# EAGLE library part BLUERADIO_BR-LE4.0-S2 (library SparkFun-RF)
Blue Radios BR-LE4.0-S2A BlueTooth 4.0 Module The BR-LE4.0-S2A is a standalone Class 1 Bluetooth 4.0 module that requires no firmware or external components. Custom client applications can be written directly onto the module, which supports both analog and digital peripherals, eliminating the need for a second microprocessor. Alternately, the BR-LE4.0-S2A can be integrated into an existing design as a HCI network processor device, with a host processor running the core application and the BR-LE4.0-S2A providing Bluetooth low energy communications. SparkFun Products: Bluetooth 4.0 Module - BR-LE 4.0-S2A <https://www.sparkfun.com/products/12991> (WRL-12991)
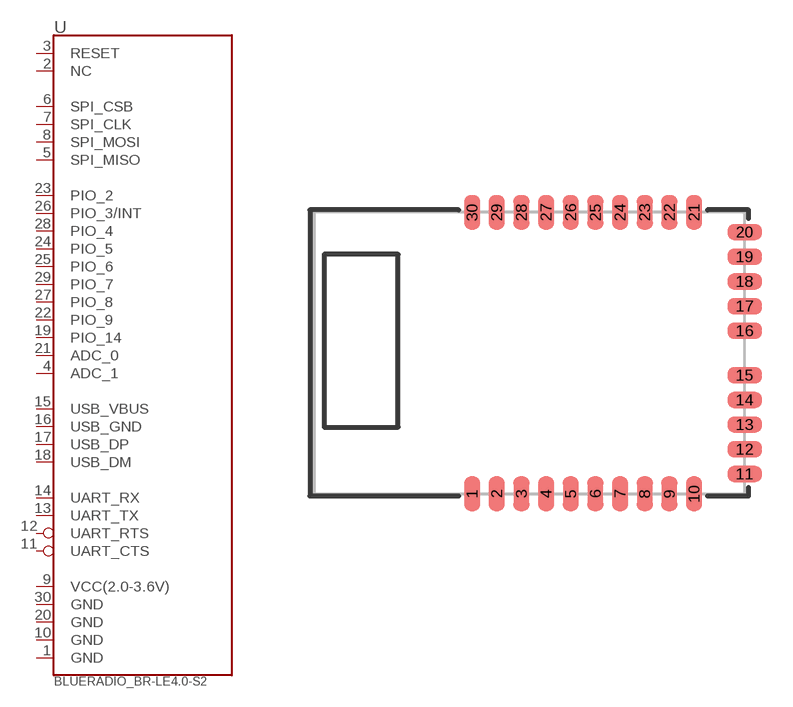
[diagram p10: symbol with the pads of BLUERADIO_BR-LE4.0-S2; footprint BLUERADIO_BR-LE4.0-S2]

Designator prefix -

## BLUERADIO_BR-LE4.0-S2 (PROD_ID: IC-11328; VALUE: BR-LE4.0-S2A)  [BLUERADIO_BR-LE4.0-S2]
1  GND  pwr
2  NC  nc
3  RESET  in
4  ADC_1  in
5  SPI_MISO
6  SPI_CSB
7  SPI_CLK
8  SPI_MOSI
9  VCC(2.0-3.6V)  pwr
10  GND  pwr
11  UART_CTS  in
12  UART_RTS  out
13  UART_TX  out
14  UART_RX  in
15  USB_VBUS
16  USB_GND
17  USB_DP
18  USB_DM
19  PIO_14
20  GND  pwr
21  ADC_0  in
22  PIO_9
23  PIO_2
24  PIO_5
25  PIO_6
26  PIO_3/INT
27  PIO_8
28  PIO_4
29  PIO_7
30  GND  pwr

## Footprint BLUERADIO_BR-LE4.0-S2 (pad centres in mm)
BlueRadio BR-LE4.0-S2 Bluetooth 4.0 Module 11.8x17.6x1.9mm Datasheet <http://www.blueradios.com/nBlue%20BR-LE4.0-S2%20Summary%20Datasheet.pdf>
smd 0.65 x 1.4: 1 -4.5,-5.7; 2 -3.5,-5.7; 3 -2.5,-5.7; 4 -1.5,-5.7; 5 -0.5,-5.7; 6 0.5,-5.7; 7 1.5,-5.7; 8 2.5,-5.7; 9 3.5,-5.7; 10 4.5,-5.7; 21 4.5,5.7; 22 3.5,5.7; 23 2.5,5.7; 24 1.5,5.7; 25 0.5,5.7; 26 -0.5,5.7; 27 -1.5,5.7; 28 -2.5,5.7; 29 -3.5,5.7; 30 -4.5,5.7
smd 1.4 x 0.65: 11 6.55,-4.9; 12 6.55,-3.9; 13 6.55,-2.9; 14 6.55,-1.9; 15 6.55,-0.9; 16 6.55,0.9; 17 6.55,1.9; 18 6.55,2.9; 19 6.55,3.9; 20 6.55,4.9